# Altium footprint library 5566-xxB2 (39-29-9xx2).PcbLib: 6 footprints
Each footprint in its own frame and in the unit in brackets; x right, y up, seen from the top. Pads: shape width x height; smd on the part's side, far side on the other; paste and mask are expansions set on the pad; w line width, h text height; cw(c..) or ccw(c..) is an arc to the next point about the centre after c.
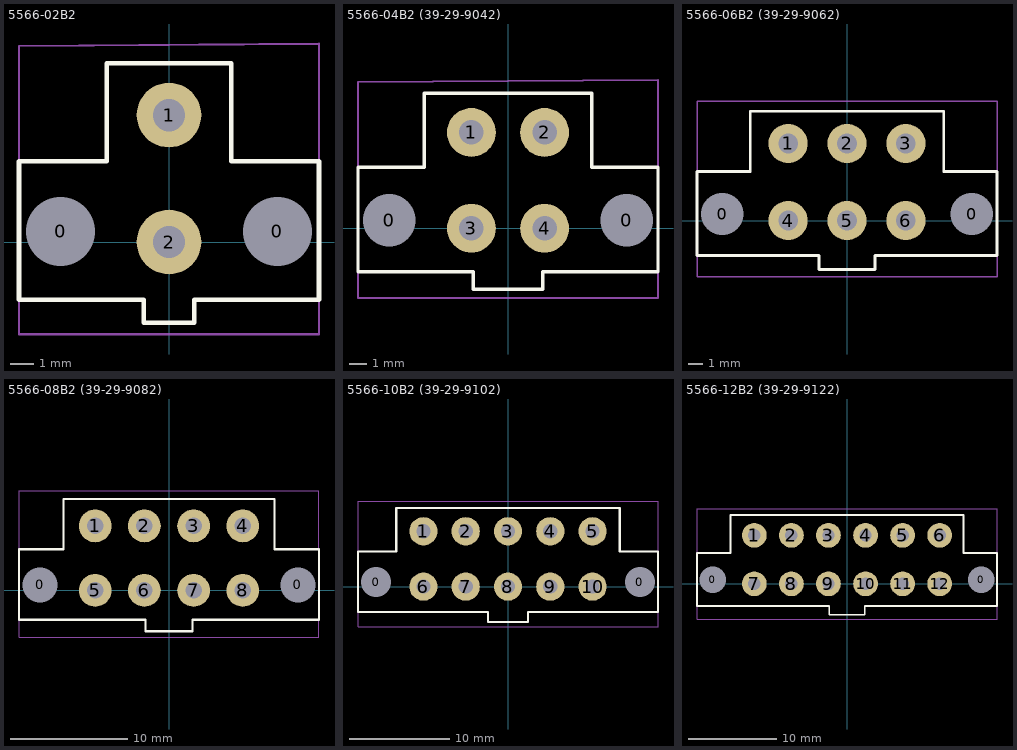
[diagram p0: the footprints below, top view; thin cyan lines are the x and y axes]

## 5566-02B2 [mm]
pads (4):
  oval 2x1.5 hole 3: 0(-4.7,0.46) 0(4.7,0.46)
  round 2.8 hole 1.4: 1(0,5.5) 2(0,0)
Top Overlay:
  lines w0.2: -6.5,-2.5 -6.5,3.5 -2.7,3.5 -2.7,7.75 2.7,7.75 2.7,3.5 6.5,3.5 6.5,-2.5 1.1,-2.5 1.1,-3.5 -1.1,-3.5 -1.1,-2.5 -6.5,-2.5
Border:
  lines w0.1: -6.5,-4 -6.5,8.495 6.5,8.595 6.5,-4 -6.5,-4
3D body "5566-02B2.stp": height 12.8, standoff -3.5, extent -5.7,-3.338 5.7,7.75

## 5566-04B2 (39-29-9042) [mm]
pads (6):
  oval 2x1.5 hole 3: 0(-6.8,0.46) 0(6.8,0.46)
  round 2.8 hole 1.4: 1(-2.1,5.5) 2(2.1,5.5) 3(-2.1,0) 4(2.1,0)
Top Overlay:
  lines w0.2: -8.6,-2.5 -8.6,3.5 -4.8,3.5 -4.8,7.75 4.8,7.75 4.8,3.5 8.6,3.5 8.6,-2.5 2,-2.5 2,-3.5 -2,-3.5 -2,-2.5 -8.6,-2.5
Border:
  lines w0.1: -8.6,-4 -8.6,8.39 8.6,8.504 8.6,-4 -8.6,-4
3D body "5566-04B2.stp": height 12.8, standoff -3.5, extent -7.8,-3.35 7.8,7.75

## 5566-06B2 (39-29-9062) [mm]
pads (8):
  oval 2x1.5 hole 3: 0(-8.9,0.46) 0(8.9,0.46)
  round 2.8 hole 1.4: 1(-4.2,5.5) 2(0,5.5) 3(4.2,5.5) 4(-4.2,0) 5(0,0) 6(4.2,0)
Top Overlay:
  lines w0.2: -6.9,7.75 -6.9,3.5 -10.7,3.5 -10.7,-2.5 -2,-2.5 -2,-3.5 2,-3.5 2,-2.5 10.7,-2.5 10.7,3.5 6.9,3.5 6.9,7.8 -6.9,7.8
Border:
  lines w0.1: -10.7,-4 -10.7,8.5 10.7,8.5 10.7,-4 -10.7,-4
3D body "5566-06B2.stp": height 12.8, standoff -3.5, extent -9.9,-3.35 9.9,7.75

## 5566-08B2 (39-29-9082) [mm]
pads (10):
  oval 2x1.5 hole 3: 0(-11,0.46) 0(11,0.46)
  round 2.8 hole 1.4: 1(-6.3,5.5) 2(-2.1,5.5) 3(2.1,5.5) 4(6.3,5.5) 5(-6.3,0) 6(-2.1,0) 7(2.1,0) 8(6.3,0)
Top Overlay:
  lines w0.2: -9,7.75 -9,3.5 -12.8,3.5 -12.8,-2.5 -2,-2.5 -2,-3.5 2,-3.5 2,-2.5 12.8,-2.5 12.8,3.5 9,3.5 9,7.8 ; -9,7.8 9,7.8
Border:
  lines w0.1: -12.8,-4 -12.8,8.5 12.8,8.5 12.8,-4 -12.8,-4
3D body "5566-08B2.stp": height 12.8, standoff -3.5, extent -12,-3.35 12,7.75

## 5566-10B2 (39-29-9102) [mm]
pads (12):
  oval 2x1.5 hole 3: 0(-13.1,0.46) 0(13.1,0.46)
  round 2.8 hole 1.4: 1(-8.4,5.5) 2(-4.2,5.5) 3(0,5.5) 4(4.2,5.5) 5(8.4,5.5) 6(-8.4,0) 7(-4.2,0) 8(0,0) 9(4.2,0) 10(8.4,0)
Top Overlay:
  lines w0.2: -11.1,7.75 -11.1,3.5 -14.9,3.5 -14.9,-2.5 -2,-2.5 -2,-3.5 2,-3.5 2,-2.5 14.9,-2.5 14.9,3.5 11.1,3.5 11.1,7.8 -11.1,7.8
Border:
  lines w0.1: -14.9,-4 -14.9,8.5 14.9,8.5 14.9,-4 -14.9,-4
3D body "5566-10B2.stp": height 12.8, standoff -3.5, extent -14.1,-3.35 14.1,7.75

## 5566-12B2 (39-29-9122) [mm]
pads (14):
  oval 2x1.5 hole 3: 0(-15.2,0.46) 0(15.2,0.46)
  round 2.8 hole 1.4: 1(-10.5,5.5) 2(-6.3,5.5) 3(-2.1,5.5) 4(2.1,5.5) 5(6.3,5.5) 6(10.5,5.5) 7(-10.5,0) 8(-6.3,0) 9(-2.1,0) 10(2.1,0) 11(6.3,0) 12(10.5,0)
Top Overlay:
  lines w0.2: -13.2,7.75 -13.2,3.5 -17,3.5 -17,-2.5 -2,-2.5 -2,-3.5 2,-3.5 2,-2.5 17,-2.5 17,3.5 13.2,3.5 13.2,7.8 -13.2,7.8
Border:
  lines w0.1: -17,-4 -17,8.5 17,8.5 17,-4 -17,-4
3D body "5566-12B2.stp": height 12.8, standoff -3.5, extent -16.2,-3.35 16.2,7.75